# EAGLE library part HLE-120-02-F-DV (library HLE-120-02-F-DV)
40 Position, Cost Effective Surface Mount Socket, 0.100" Pitch Source: Datasheet <http://suddendocs.samtec.com/prints/hle-1xx-02-xxx-dv-xx-xx-xx-mkt.pdf>
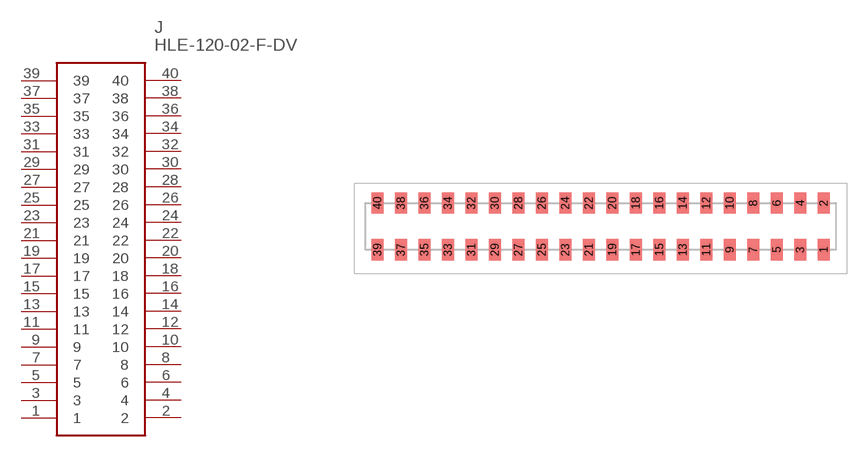
[diagram p0: symbol with the pads of HLE-120-02-XXX-DV; footprint HLE-120-02-XXX-DV]

Designator prefix J

## HLE-120-02-F-DV (Arrow_Part_Number: HLE-120-02-F-DV; Arrow_Price-Stock: https://www.arrow.com/en/products/hle-120-02-f-dv/samtec; Description: 40 Position, Cost Effective Surface Mount Socket, 0.100&quot; Pitch; Height: mm; Manufacturer_Name: SAMTEC; Manufacturer_Part_Number: HLE-120-02-F-DV)  [HLE-120-02-XXX-DV]
1  1
2  2
3  3
4  4
5  5
6  6
7  7
8  8
9  9
10  10
11  11
12  12
13  13
14  14
15  15
16  16
17  17
18  18
19  19
20  20
21  21
22  22
23  23
24  24
25  25
26  26
27  27
28  28
29  29
30  30
31  31
32  32
33  33
34  34
35  35
36  36
37  37
38  38
39  39
40  40

## Footprint HLE-120-02-XXX-DV (pad centres in mm)
HLE-120-02-XXX-DV
smd 1.27 x 2.29: 1 24.13,-2.525; 2 24.13,2.525; 3 21.59,-2.525; 4 21.59,2.525; 5 19.05,-2.525; 6 19.05,2.525; 7 16.51,-2.525; 8 16.51,2.525; 9 13.97,-2.525; 10 13.97,2.525; 11 11.43,-2.525; 12 11.43,2.525; 13 8.89,-2.525; 14 8.89,2.525; 15 6.35,-2.525; 16 6.35,2.525; 17 3.81,-2.525; 18 3.81,2.525; 19 1.27,-2.525; 20 1.27,2.525; 21 -1.27,-2.525; 22 -1.27,2.525; 23 -3.81,-2.525; 24 -3.81,2.525; 25 -6.35,-2.525; 26 -6.35,2.525; 27 -8.89,-2.525; 28 -8.89,2.525; 29 -11.43,-2.525; 30 -11.43,2.525; 31 -13.97,-2.525; 32 -13.97,2.525; 33 -16.51,-2.525; 34 -16.51,2.525; 35 -19.05,-2.525; 36 -19.05,2.525; 37 -21.59,-2.525; 38 -21.59,2.525; 39 -24.13,-2.525; 40 -24.13,2.525